# Altium footprint library PCB2.PcbLib: 4 footprints
Each footprint in its own frame and in the unit in brackets; x right, y up, seen from the top. Pads: shape width x height; smd on the part's side, far side on the other; paste and mask are expansions set on the pad; w line width, h text height; cw(c..) or ccw(c..) is an arc to the next point about the centre after c.
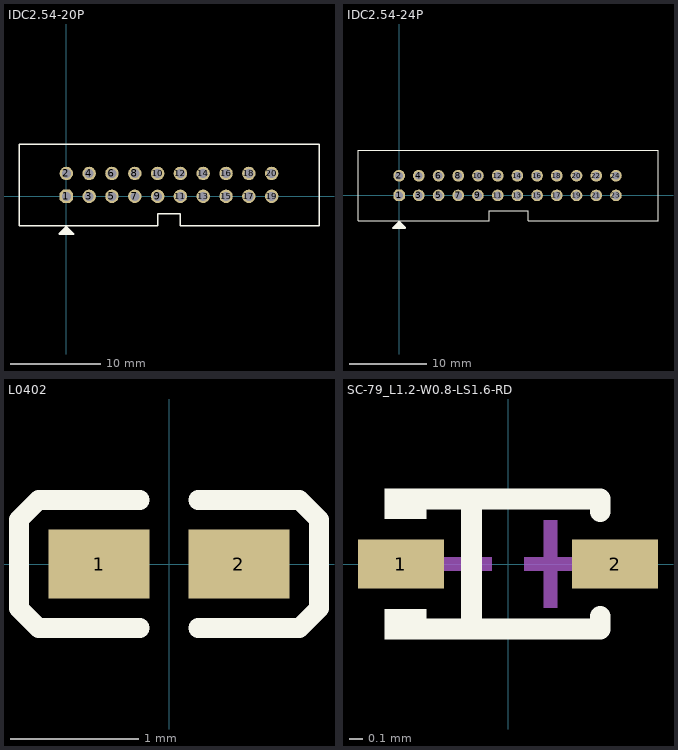
[diagram p0: the footprints below, top view; thin cyan lines are the x and y axes]

## IDC2.54-20P [mm]
pads (20):
  oct 1.5x1.5 hole 1: 1(0,0)
  round 1.5 hole 1: 2(0,2.54) 3(2.54,0) 4(2.54,2.54) 5(5.08,0) 6(5.08,2.54) 7(7.62,0) 8(7.62,2.54) 9(10.16,0) 10(10.16,2.54) 11(12.7,0) 12(12.7,2.54) 13(15.24,0) 14(15.24,2.54) 15(17.78,0) 16(17.78,2.54) 17(20.32,0) 18(20.32,2.54) 19(22.86,0) 20(22.86,2.54)
Top Overlay:
  lines w0.15: -5.27,-3.27 -5.27,5.81 28.13,5.81 28.13,-3.27 12.7,-3.27 12.7,-1.96 10.2,-1.96 10.2,-3.27 -5.27,-3.27
  lines w0.254: -0.508,-4.191 -0.254,-3.937 ; -0.381,-3.81 0.127,-3.81 0.508,-4.191 ; 0,-3.683 0,-3.429 ; -0.254,-3.937 0,-4.191 0.508,-4.191 ; -0.254,-3.937 0.254,-3.937 0.508,-4.191 ; 0,-3.429 -0.762,-4.191 0.508,-4.191 ; 0,-3.429 0.762,-4.191 0.508,-4.191
Bottom Overlay:
  lines w0.6: -1.041,1.27 23.5,1.27 ; 1.27,-0.813 1.27,3.556 ; 3.81,-0.813 3.81,3.556 ; 6.35,-0.813 6.35,3.556 ; 8.89,-0.813 8.89,3.556 ; 11.43,-0.813 11.43,3.556 ; 13.97,-0.813 13.97,3.556 ; 16.51,-0.813 16.51,3.556 ; 19.05,-0.813 19.05,3.556 ; 21.59,-0.813 21.59,3.556
3D body "IDC 20.step": height 9.13, standoff -3.27, extent -5.07,-2.98 27.93,5.87

## IDC2.54-24P [mm]
pads (24):
  oct 1.5x1.5 hole 1: 1(0,0)
  round 1.5 hole 1: 2(0,2.54) 3(2.54,0) 4(2.54,2.54) 5(5.08,0) 6(5.08,2.54) 7(7.62,0) 8(7.62,2.54) 9(10.16,0) 10(10.16,2.54) 11(12.7,0) 12(12.7,2.54) 13(15.24,0) 14(15.24,2.54) 15(17.78,0) 16(17.78,2.54) 17(20.32,0) 18(20.32,2.54) 19(22.86,0) 20(22.86,2.54) 21(25.4,0) 22(25.4,2.54) 23(27.94,0) 24(27.94,2.54)
Top Overlay:
  lines w0.15: 11.623,-3.26 10.26,-3.26 -5.3,-3.26 -5.3,5.84 33.36,5.84 33.36,-3.26 16.63,-3.26 16.63,-1.967 11.63,-1.967 11.63,-3.267
  lines w0.254: -0.508,-4.191 -0.254,-3.937 ; -0.381,-3.81 0.127,-3.81 0.508,-4.191 ; 0,-3.683 0,-3.429 ; -0.254,-3.937 0.254,-3.937 0.508,-4.191 ; -0.254,-3.937 0,-4.191 0.508,-4.191 ; 0,-3.429 0.762,-4.191 0.508,-4.191 ; 0,-3.429 -0.762,-4.191 0.508,-4.191
Bottom Overlay:
  lines w0.6: -1.041,1.27 28.5,1.27 ; 1.27,-0.813 1.27,3.556 ; 3.81,-0.813 3.81,3.556 ; 6.35,-0.813 6.35,3.556 ; 8.89,-0.813 8.89,3.556 ; 11.43,-0.813 11.43,3.556 ; 13.97,-0.813 13.97,3.556 ; 16.51,-0.813 16.51,3.556 ; 19.05,-0.813 19.05,3.556 ; 21.59,-0.813 21.59,3.556 ; 24.13,-0.813 24.13,3.556 ; 26.67,-0.813 26.67,3.556
3D body "IDC-24.STEP": height 8.92, standoff -3.48, extent -5.07,-2.98 33.01,5.87

## L0402 [mm]
pads (2):
  rect 0.79x0.54 smd: 1(-0.545,0) 2(0.545,0)
Top Overlay:
  lines w0.152: -0.226,-0.499 -1.016,-0.499 -1.169,-0.346 -1.169,0.346 -1.016,0.499 -0.226,0.499 ; 0.226,-0.499 1.016,-0.499 1.169,-0.346 1.169,0.346 1.016,0.499 0.226,0.499
Top Paste:
  region: -0.135,-0.086 -0.135,0.086 -0.404,0.27 -0.9,0.27 -0.94,0.23 -0.94,-0.23 -0.9,-0.27 -0.404,-0.27
  region: 0.135,-0.086 0.135,0.086 0.404,0.27 0.9,0.27 0.94,0.23 0.94,-0.23 0.9,-0.27 0.404,-0.27

## SC-79_L1.2-W0.8-LS1.6-RD [mm]
pads (2):
  rect 0.63x0.36 smd: 1(-0.785,0) 2(0.785,0)
Top Overlay:
  region: -0.6,0.552 -0.6,0.332 -0.905,0.332 -0.905,0.552
  region: -0.6,-0.552 -0.6,-0.332 -0.905,-0.332 -0.905,-0.552
  lines w0.152: -0.676,-0.476 0.676,-0.476 0.676,-0.383 ; -0.676,0.476 0.676,0.476 0.676,0.383 ; -0.267,-0.476 -0.267,0.476
Mechanical 15:
  region: -0.504,0.048 -0.504,-0.048 -0.12,-0.048 -0.12,0.048
  region: 0.504,0.048 0.504,-0.048 0.12,-0.048 0.12,0.048
  region: 0.36,0.32 0.36,-0.32 0.264,-0.32 0.264,0.32